# Altium footprint library NTCs.PcbLib: 1 footprints
Each footprint in its own frame and in the unit in brackets; x right, y up, seen from the top. Pads: shape width x height; smd on the part's side, far side on the other; paste and mask are expansions set on the pad; w line width, h text height; cw(c..) or ccw(c..) is an arc to the next point about the centre after c.
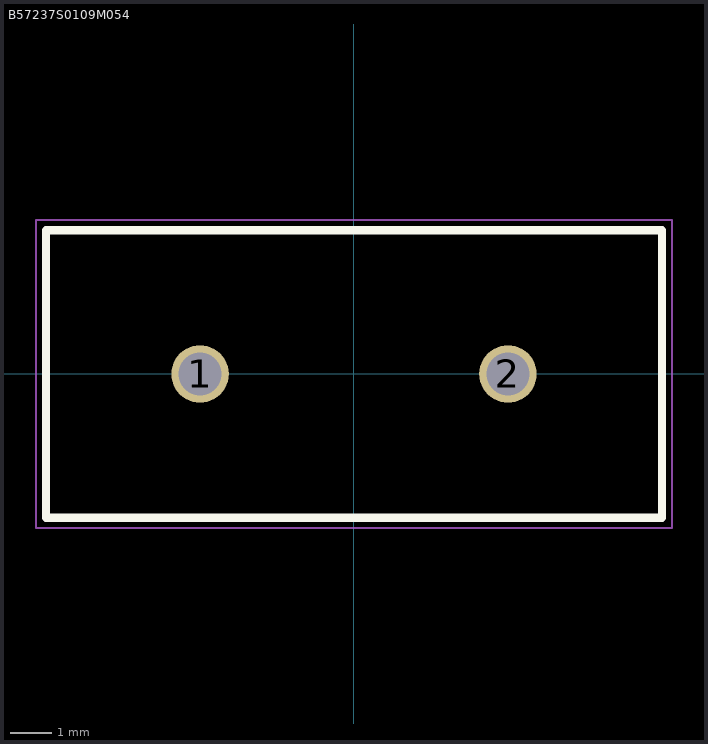
[diagram p0: the footprint, top view; thin cyan lines are the x and y axes]

## B57237S0109M054 [mm]
pads (2):
  round 1.4 hole 1.05: 1(-3.75,0) 2(3.75,0)
Top Overlay:
  lines w0.2: -7.5,-3.5 7.5,-3.5 7.5,3.5 -7.5,3.5 -7.5,-3.5
Mechanical 13:
  lines w0: -7.5,-3.5 -7.5,3.5 7.5,3.5 7.5,-3.5 -7.5,-3.5
Mechanical 15:
  lines w0.05: -7.75,-3.75 -7.75,3.75 7.75,3.75 7.75,-3.75 -7.75,-3.75
3D body "s237.STEP": height 22, standoff -25, extent -7.5,-3.5 7.5,3.5